# EAGLE library part TPS7A80 (library LoRa Gateway)
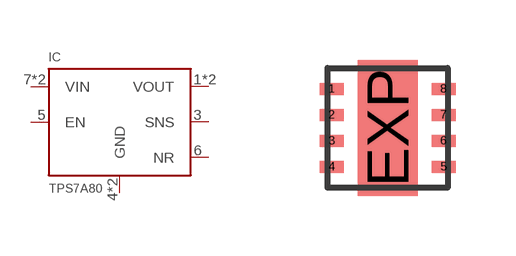
[diagram p9: symbol with the pads of SON-8; footprint SON-8]

Designator prefix IC

## TPS7A80  [SON-8]
1  VOUT
2  VOUT
3  SNS
4  GND
5  EN
6  NR
7  VIN
8  VIN
EXP  GND

## Footprint SON-8 (pad centres in mm)
smd 0.6 x 0.3: 1 -1.4,0.975; 2 -1.4,0.325; 3 -1.4,-0.325; 4 -1.4,-0.975; 5 1.4,-0.975; 6 1.4,-0.325; 7 1.4,0.325; 8 1.4,0.975
smd 1.5 x 3.4: EXP 0,0